# Altium footprint library lib_mosfet.PcbLib: 2 footprints
Each footprint in its own frame and in the unit in brackets; x right, y up, seen from the top. Pads: shape width x height; smd on the part's side, far side on the other; paste and mask are expansions set on the pad; w line width, h text height; cw(c..) or ccw(c..) is an arc to the next point about the centre after c.
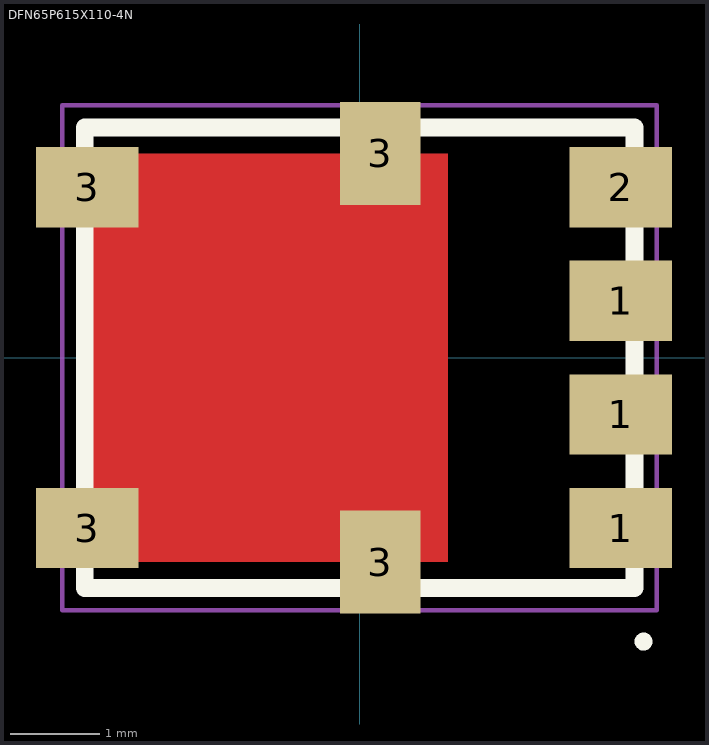
[diagram p0: the footprints below, top view; thin cyan lines are the x and y axes]

## DFN65P615X110-4N [mm] "DFN, 4-Leads, Body 5,15x6,15mm, Pitch 0,65mm, IPC Medium Density"
height 1.1
pads (8):
  rect 1.15x0.9 smd: 1(2.921,-1.905) 1(2.921,-0.635) 1(2.921,0.635) 2(2.921,1.905) 3(-3.048,-1.905) 3(-3.048,1.905)
  rect 0.9x1.15 smd: 3(0.229,-2.286) 3(0.229,2.286)
Top Layer:
  rectangle: -3.175,-2.286 0.991,2.286
Top Overlay:
  circle w0.1: c3.175,-3.175 r0.05
  lines w0.2: -3.075,-2.575 -3.075,2.575 3.075,2.575 3.075,-2.575 -3.075,-2.575
Mechanical 13:
  lines w0.1: -3.075,-2.575 3.075,-2.575 3.075,2.575 -3.075,2.575 -3.075,-2.575
Mechanical 15:
  lines w0.05: -3.325,-2.825 3.325,-2.825 3.325,2.825 -3.325,2.825 -3.325,-2.825
  lines w0.1: -0.5,0 0.5,0 ; 0,-0.5 0,0.5
3D body "DFN65P615X110-4N.step": height 1.1, standoff 0, extent -3.075,-2.575 3.4,2.575

## NTMFS4935 [mm]